# EAGLE library part USB3-B-TH-FLAT-SIDE (library USB Connector)
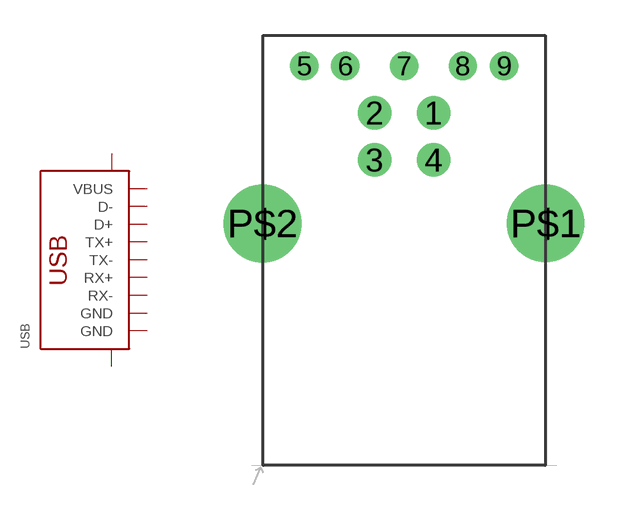
[diagram p12: symbol with the pads of USB3-B-TH-FLAT-SIDE; footprint USB3-B-TH-FLAT-SIDE]

Designator prefix USB

## USB3-B-TH-FLAT-SIDE  [USB3-B-TH-FLAT-SIDE]
1  VBUS
2  D-
3  D+
4  GND
5  TX-
6  TX+
7  GND
8  RX-
9  RX+
P$1  SHIELD
P$2  SHIELD

## Footprint USB3-B-TH-FLAT-SIDE (pad centres in mm)
USB Series B Hole Mounted
drill 0.92: 1 1.25,0; 2 -1.25,0; 3 -1.25,-2; 4 1.25,-2
drill 0.7: 5 -4.25,2; 6 -2.5,2; 7 0,2; 8 2.5,2; 9 4.25,2
drill 2.286: P$1 6.02,-4.7
drill 2.3: P$2 -6.02,-4.7